# Altium footprint library STC智能车.PcbLib: 23 footprints (part 2 of 2)
Each footprint in its own frame and in the unit in brackets; x right, y up, seen from the top. Pads: shape width x height; smd on the part's side, far side on the other; paste and mask are expansions set on the pad; w line width, h text height; cw(c..) or ccw(c..) is an arc to the next point about the centre after c.
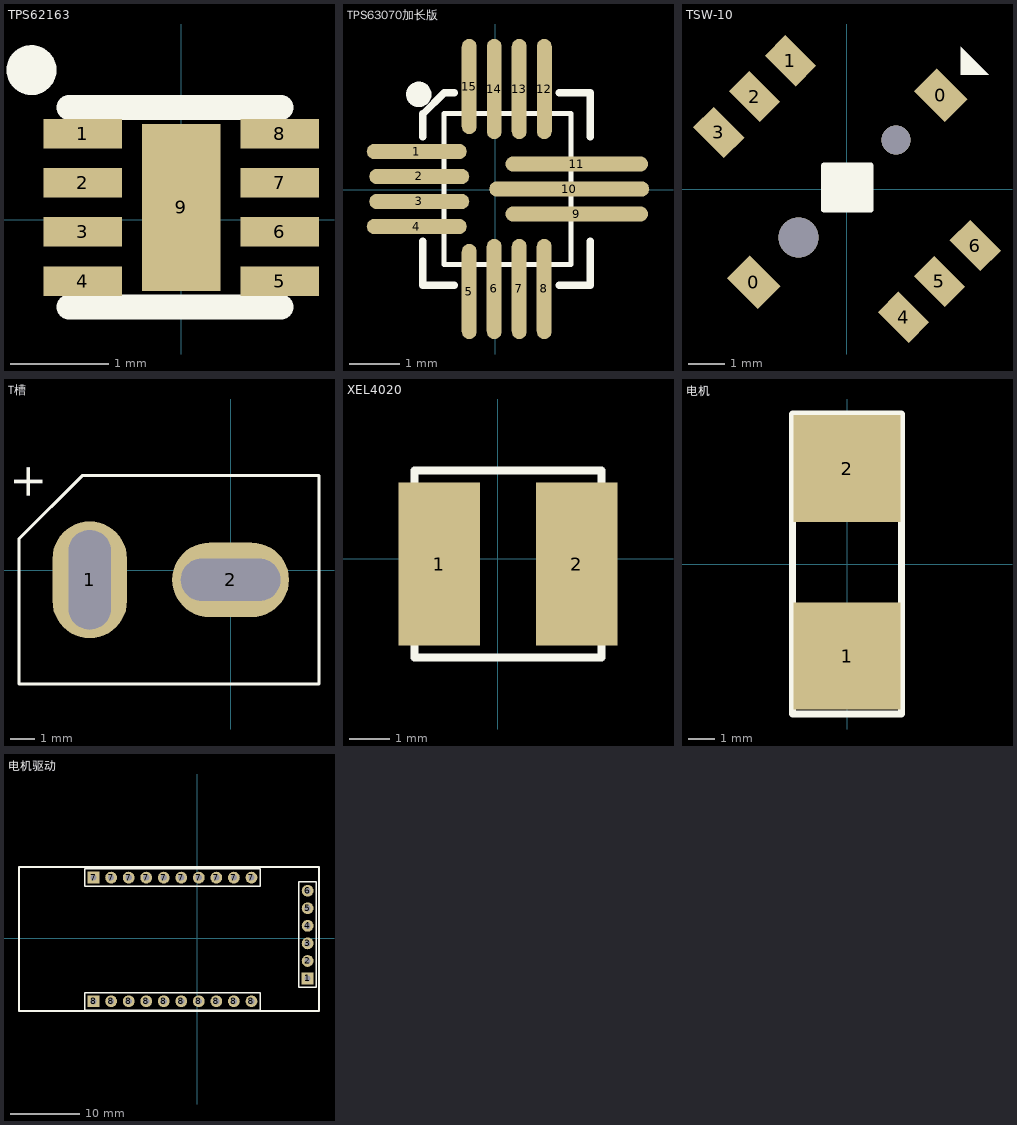
[diagram p1: the footprints below, top view; thin cyan lines are the x and y axes]

## TPS62163 [mm]
pads (9):
  rect 0.8x0.3 smd: 1(-1.002,0.877) 2(-1.002,0.377) 3(-1.002,-0.123) 4(-1.002,-0.623) 5(1.002,-0.623) 6(1.002,-0.123) 7(1.002,0.377) 8(1.002,0.877)
  rect 0.8x1.7 smd paste-0.837: 9(0,0.127)
Top Overlay:
  circle w0.254: c-1.524,1.524 r0.127
  lines w0.254: -1.143,-0.889 1.016,-0.889 ; -1.143,1.143 1.016,1.143
Top Paste:
  region: 0.5,0.977 -0.5,0.977 -0.5,-0.723 0.5,-0.723
3D body "S-PWSON-N8.stp": height 0.8, standoff 0, extent -1.051,-0.873 1.051,1.127

## TPS63070加长版 [mm]
pads (15):
  oval 2x0.3 smd: 1(-1.566,0.762) 2(-1.516,0.262) 3(-1.516,-0.238) 4(-1.566,-0.738)
  oval 0.3x1.9 smd: 5(-0.516,-2.038) 15(-0.516,2.062)
  oval 0.3x2 smd: 6(-0.016,-1.988) 7(0.484,-1.988) 8(0.984,-1.988) 12(0.984,2.012) 13(0.484,2.012) 14(-0.016,2.012)
  oval 2.85x0.3 smd: 9(1.634,-0.488) 11(1.634,0.512)
  oval 3.2x0.3 smd: 10(1.484,0.012)
Top Overlay:
  circle w0.254: c-1.524,1.905 r0.127
  lines w0.1: 1.516,-1.499 1.516,1.524 ; 1.524,-1.499 -1.016,-1.499 -1.016,0.762 -1.016,1.524 1.524,1.524
  lines w0.15: -1.441,-1.038 -1.441,-1.913 -0.816,-1.913 ; -1.441,1.062 -1.441,1.512 -1.016,1.937 -0.816,1.937 ; 1.284,-1.913 1.909,-1.913 1.909,-1.038 ; 1.284,1.937 1.909,1.937 1.909,1.062

## TSW-10 [mm]
height 8
pads (8):
  rect 1.2x0.9 smd rot 135: 0(-2.575,-2.575) 0(2.587,2.587)
  rect 1.2x0.8 smd rot 135: 1(-1.56,3.54) 2(-2.55,2.55) 3(-3.54,1.56) 4(1.56,-3.54) 5(2.55,-2.55) 6(3.54,-1.56)
via 1.349,1.349 diameter 0.8 hole 0.8
via -1.338,-1.338 diameter 1.1 hole 1.1
Top Overlay:
  rectangle: -0.635,-0.573 0.651,0.649
  region: 3.145,3.15 3.916,3.15 3.145,3.921
  lines w0.152: -0.635,-0.573 -0.635,0.649 -0.238,0.649 0.651,0.649 0.651,-0.573 -0.635,-0.573
3D body "export.stp": height 4.5, standoff 0, extent -5.603,-5.606 5.428,5.425

## T槽 [mm]
pads (2):
  oval 3x4.7 hole 1.7 slot 4 at 90 deg: 1(-5.664,-0.381)
  oval 4.7x3 hole 1.7 slot 4 at 0 deg: 2(0,-0.381)
Top Overlay:
  lines w0.127: -8.509,-4.572 3.556,-4.572 ; -8.509,-4.547 -8.509,1.27 -5.969,3.81 3.556,3.81 3.556,-4.547
  text "+" at -7.112,2.794 h2.29

## XEL4020 [mm]
pads (2):
  rect 2x4 smd paste+0 mask+0.051: 1(-1.431,-0.127) 2(1.939,-0.127)
Top Overlay:
  lines w0.2: -2.046,-2.427 2.554,-2.427 2.554,2.173 -2.046,2.173 -2.046,-2.427

## 电机 [mm]
pads (2):
  rect 4x4 smd paste+0 mask+0.051: 1(0,-3.429) 2(0,3.556)
Top Overlay:
  lines w0.254: -2.032,-5.588 2.032,-5.588 2.032,5.588 -2.032,5.588 -2.032,-5.588

## 电机驱动 [mm]
pads (26):
  rect 1.7x1.7 hole 0.9: 1(16.002,-5.842) 7(-14.986,8.763) 8(-14.986,-9.144)
  round 1.7 hole 0.9: 2(16.002,-3.302) 3(16.002,-0.762) 4(16.002,1.778) 5(16.002,4.318) 6(16.002,6.858) 7(-12.446,8.763) 7(-9.906,8.763) 7(-7.366,8.763) 7(-4.826,8.763) 7(-2.286,8.763) 7(0.254,8.763) 7(2.794,8.763) 7(5.334,8.763) 7(7.874,8.763) 8(-12.446,-9.144) 8(-9.906,-9.144) 8(-7.366,-9.144) 8(-4.826,-9.144) 8(-2.286,-9.144) 8(0.254,-9.144) 8(2.794,-9.144) 8(5.334,-9.144) 8(7.874,-9.144)
Top Overlay:
  lines w0.2: -16.256,-10.414 -16.256,-7.874 9.144,-7.874 9.144,-10.414 -16.256,-10.414 ; -16.256,7.493 -16.256,10.033 9.144,10.033 9.144,7.493 -16.256,7.493 ; 14.732,-7.112 14.732,8.128 17.272,8.128 17.272,-7.112 14.732,-7.112
  lines w0.254: -25.781,-10.541 17.653,-10.541 17.653,10.287 -25.781,10.287 -25.781,-10.541
3D body "HDR2.54-1P.STEP": height 8.5, standoff -3, extent 14.732,-7.112 17.272,-4.572
3D body "HDR2.54-1P.STEP": height 8.5, standoff -3, extent 14.732,-4.572 17.272,-2.032
3D body "HDR2.54-1P.STEP": height 8.5, standoff -3, extent 14.732,-2.032 17.272,0.508
3D body "HDR2.54-1P.STEP": height 8.5, standoff -3, extent 14.732,0.508 17.272,3.048
3D body "HDR2.54-1P.STEP": height 8.5, standoff -3, extent 14.732,3.048 17.272,5.588
3D body "HDR2.54-1P.STEP": height 8.5, standoff -3, extent 14.732,5.588 17.272,8.128
3D body "HDR2.54-1P.STEP": height 8.5, standoff -3, extent -6.096,-10.414 -3.556,-7.874
3D body "HDR2.54-1P.STEP": height 8.5, standoff -3, extent -3.556,-10.414 -1.016,-7.874
3D body "HDR2.54-1P.STEP": height 8.5, standoff -3, extent -1.016,-10.414 1.524,-7.874
3D body "HDR2.54-1P.STEP": height 8.5, standoff -3, extent 1.524,-10.414 4.064,-7.874
3D body "HDR2.54-1P.STEP": height 8.5, standoff -3, extent 4.064,-10.414 6.604,-7.874
3D body "HDR2.54-1P.STEP": height 8.5, standoff -3, extent 6.604,-10.414 9.144,-7.874
3D body "HDR2.54-1P.STEP": height 8.5, standoff -3, extent -16.256,-10.414 -13.716,-7.874
3D body "HDR2.54-1P.STEP": height 8.5, standoff -3, extent -13.716,-10.414 -11.176,-7.874
3D body "HDR2.54-1P.STEP": height 8.5, standoff -3, extent -11.176,-10.414 -8.636,-7.874
3D body "HDR2.54-1P.STEP": height 8.5, standoff -3, extent -8.636,-10.414 -6.096,-7.874
3D body "HDR2.54-1P.STEP": height 8.5, standoff -3, extent -6.096,7.493 -3.556,10.033
3D body "HDR2.54-1P.STEP": height 8.5, standoff -3, extent -3.556,7.493 -1.016,10.033
3D body "HDR2.54-1P.STEP": height 8.5, standoff -3, extent -1.016,7.493 1.524,10.033
3D body "HDR2.54-1P.STEP": height 8.5, standoff -3, extent 1.524,7.493 4.064,10.033
3D body "HDR2.54-1P.STEP": height 8.5, standoff -3, extent 4.064,7.493 6.604,10.033
3D body "HDR2.54-1P.STEP": height 8.5, standoff -3, extent 6.604,7.493 9.144,10.033
3D body "HDR2.54-1P.STEP": height 8.5, standoff -3, extent -16.256,7.493 -13.716,10.033
3D body "HDR2.54-1P.STEP": height 8.5, standoff -3, extent -13.716,7.493 -11.176,10.033
3D body "HDR2.54-1P.STEP": height 8.5, standoff -3, extent -11.176,7.493 -8.636,10.033
3D body "HDR2.54-1P.STEP": height 8.5, standoff -3, extent -8.636,7.493 -6.096,10.033